# EAGLE library part AS08-35 (library con-deutsch)
DEUTSCH Connector
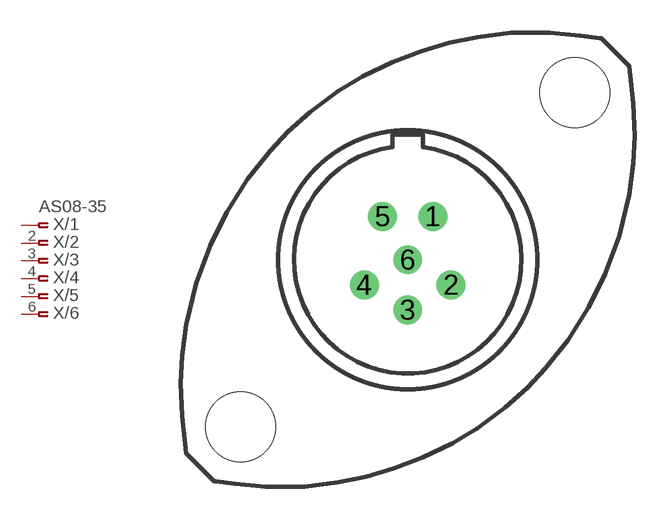
[diagram p0: symbol with the pads of AS08-35; footprint AS08-35]

Designator prefix X; gates /1=PINF_VAL /2=ASPINF /3=ASPINF /4=ASPINF /5=ASPINF /6=ASPINF

## AS08-35  [AS08-35]
1  /1:1  pas
2  /2:1  pas
3  /3:1  pas
4  /4:1  pas
5  /5:1  pas
6  /6:1  pas

## Footprint AS08-35 (pad centres in mm)
DEUTSCH Connector
drill 0.813 round: 1 1.143,1.981; 2 1.981,-1.143; 3 0,-2.286; 4 -1.981,-1.143; 5 -1.143,1.981; 6 0,0
hole 3.2 at -7.62,-7.62
hole 3.2 at 7.62,7.62